# EAGLE library part LMC6081 (library Jim)
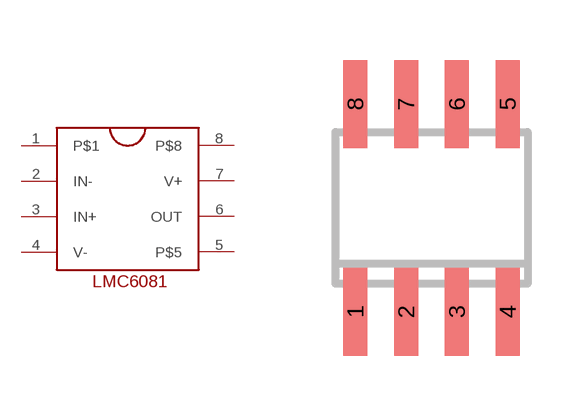
[diagram p5: symbol with the pads of SOIC-8; footprint SOIC-8]

Designator prefix -

## LMC6081  [SOIC-8]
1  P$1  nc
2  IN-  in
3  IN+  in
4  V-  pwr
5  P$5  nc
6  OUT  out
7  V+  pwr
8  P$8  nc

## Footprint SOIC-8 (pad centres in mm)
smd 0.6 x 2.2: 1 -1.905,-2.6; 2 -0.635,-2.6; 3 0.635,-2.6; 4 1.905,-2.6; 5 1.905,2.6; 6 0.635,2.6; 7 -0.635,2.6; 8 -1.905,2.6